# Altium integrated library LMR33630CDDAR.IntLib: 1 symbol
Pins are listed as number, name and electrical type; pins without a type are passive.

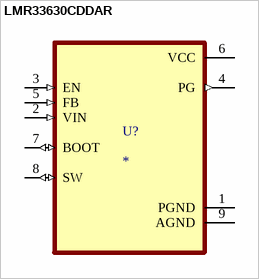
[diagram p0: symbol LMR33630CDDAR]

## LMR33630CDDAR
designator U?
SIMPLE SWITCHER 3.8V to 36V, 3A Synchronous Buck Converter With Ultra-Low EMI 8-SO PowerPAD -40 to 125; MP: LMR33630CDDAR; MF: Texas Instruments; Package: HSOIC-8 Texas Instruments; Purchase-URL: https://pricing.snapeda.com/search/part/LMR33630CDDAR/?ref=eda; Check_prices: https://www.snapeda.com/parts/LMR33630CDDAR/Texas%20Instruments/view-part/2725482/?ref=eda; SnapEDA_Link: https://www.snapeda.com/parts/LMR33630CDDAR/Texas%20Instruments/view-part/2725482/?ref=snap; Price: None; Availability: Warning; Value: *
footprint VREG_LM5017MR/NOPB
pins: 1 PGND (power), 2 VIN (in), 3 EN (in), 4 PG (out), 5 FB (in), 6 VCC (power), 7 BOOT (io), 8 SW (io), 9 AGND (power)